# EAGLE library part NE555 (library Timer -  NE555)
Name des Bauteiles:NE555 Daten:CMOS IC, 3 V - 18 VDC, Timer- IC Artikelnummer:#045360 Datenblatt:www.datasheet.com
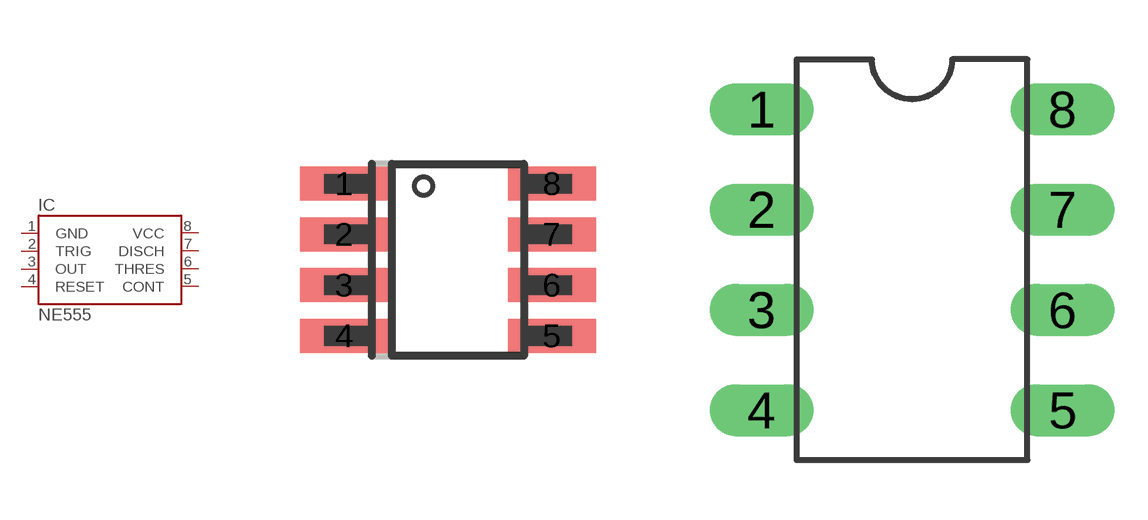
[diagram p0: symbol with the pads of SO8; footprints SO8, DIL8]

Designator prefix IC

## NE555SMD  [SO8]
1  GND
2  TRIG
3  OUT
4  RESET
5  CONT
6  THRES
7  DISCH
8  VCC

## NE555THT  [DIL8]
Pads as for SO8

## Footprint SO8 (pad centres in mm)
smd 2.2 x 0.854: 1 -2.6,1.905; 2 -2.6,0.635; 3 -2.6,-0.635; 4 -2.6,-1.905; 5 2.6,-1.905; 6 2.6,-0.635; 7 2.6,0.635; 8 2.6,1.905

## Footprint DIL8 (pad centres in mm)
drill 0.813 long: 1 -3.81,3.81; 2 -3.81,1.27; 3 -3.81,-1.27; 4 -3.81,-3.81; 5 3.81,-3.81; 6 3.81,-1.27; 7 3.81,1.27; 8 3.81,3.81